# EAGLE library part CHESSLIB_PIZEROW (library ChessComputer)
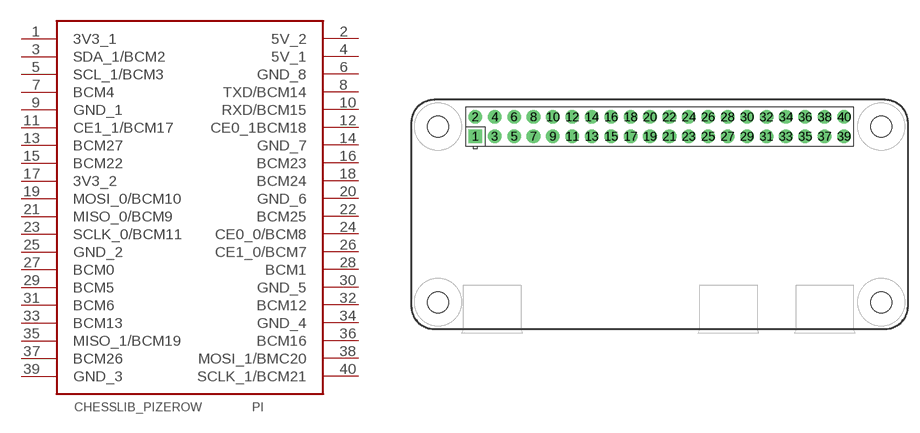
[diagram p2: symbol with the pads of CHESSLIB_RASP_PI_ZERO_BOARD_FULL; footprint CHESSLIB_RASP_PI_ZERO_BOARD_FULL]

Designator prefix PI

## CHESSLIB_PIZEROW  [CHESSLIB_RASP_PI_ZERO_BOARD_FULL]
1  3V3_1
2  5V_2
3  SDA_1/BCM2
4  5V_1
5  SCL_1/BCM3
6  GND_8
7  BCM4
8  TXD/BCM14
9  GND_1
10  RXD/BCM15
11  CE1_1/BCM17
12  CE0_1BCM18
13  BCM27
14  GND_7
15  BCM22
16  BCM23
17  3V3_2
18  BCM24
19  MOSI_0/BCM10
20  GND_6
21  MISO_0/BCM9
22  BCM25
23  SCLK_0/BCM11
24  CE0_0/BCM8
25  GND_2
26  CE1_0/BCM7
27  BCM0
28  BCM1
29  BCM5
30  GND_5
31  BCM6
32  BCM12
33  BCM13
34  GND_4
35  MISO_1/BCM19
36  BCM16
37  BCM26
38  MOSI_1/BMC20
39  GND_3
40  SCLK_1/BCM21

## Footprint CHESSLIB_RASP_PI_ZERO_BOARD_FULL (pad centres in mm)
Raspberry Pi board model B+, full outline with position of big connectors & drill holes
drill 1 pad 1.778 square: 1 8.37,25.23
drill 1 pad 1.778: 2 8.37,27.77; 3 10.91,25.23; 4 10.91,27.77; 5 13.45,25.23; 6 13.45,27.77; 7 15.99,25.23; 8 15.99,27.77; 9 18.53,25.23; 10 18.53,27.77; 11 21.07,25.23; 12 21.07,27.77; 13 23.61,25.23; 14 23.61,27.77; 15 26.15,25.23; 16 26.15,27.77; 17 28.69,25.23; 18 28.69,27.77; 19 31.23,25.23; 20 31.23,27.77; 21 33.77,25.23; 22 33.77,27.77; 23 36.31,25.23; 24 36.31,27.77; 25 38.85,25.23; 26 38.85,27.77; 27 41.39,25.23; 28 41.39,27.77; 29 43.93,25.23; 30 43.93,27.77; 31 46.47,25.23; 32 46.47,27.77; 33 49.01,25.23; 34 49.01,27.77; 35 51.55,25.23; 36 51.55,27.77; 37 54.09,25.23; 38 54.09,27.77; 39 56.63,25.23; 40 56.63,27.77
hole 2.75 at 3.5,3.5
hole 2.75 at 3.5,26.5
hole 2.75 at 61.5,3.5
hole 2.75 at 61.5,26.5